# EAGLE library part 690_357_28_10_76 (library SHC)
MM MALE SMT CONNECTOR WITHOUT LATCH AND WITHOUT POLARIZATION
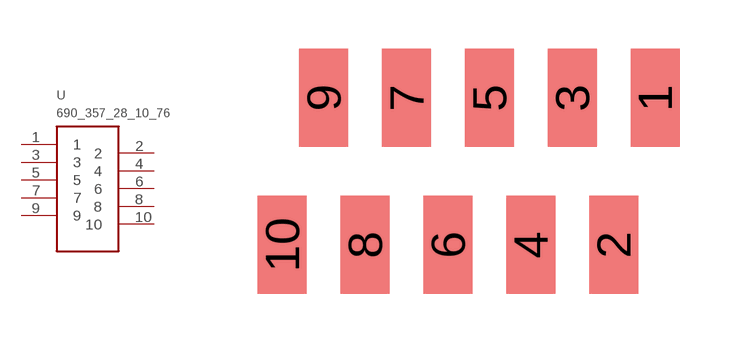
[diagram p17: symbol with the pads of 690_357_28_10_76; footprint 690_357_28_10_76]

Designator prefix -

## 690_357_28_10_76  [690_357_28_10_76]
1  1
2  2
3  3
4  4
5  5
6  6
7  7
8  8
9  9
10  10

## Footprint 690_357_28_10_76 (pad centres in mm)
smd 1.5 x 3: 1 5.62,2.5; 2 4.35,-2; 3 3.08,2.5; 4 1.81,-2; 5 0.54,2.5; 6 -0.73,-2; 7 -2,2.5; 8 -3.27,-2; 9 -4.54,2.5; 10 -5.81,-2